# EAGLE library part MICS-SMD12 (library con-lumberg)
CONNECTOR
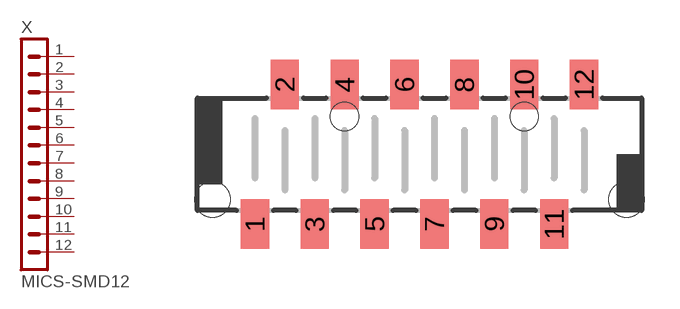
[diagram p14: symbol with the pads of MICSMD12; footprint MICSMD12]

Designator prefix X

## MICS-SMD12 (OC_FARNELL: unknown; OC_NEWARK: unknown)  [MICSMD12]
1  1  pas
2  2  pas
3  3  pas
4  4  pas
5  5  pas
6  6  pas
7  7  pas
8  8  pas
9  9  pas
10  10  pas
11  11  pas
12  12  pas

## Footprint MICSMD12 (pad centres in mm)
CONNECTOR
smd 1.2 x 2.1: 1 -6.985,-2.959; 2 -5.715,2.959; 3 -4.445,-2.959; 4 -3.175,2.959; 5 -1.905,-2.959; 6 -0.635,2.959; 7 0.635,-2.959; 8 1.905,2.959; 9 3.175,-2.959; 10 4.445,2.959; 11 5.715,-2.959; 12 6.985,2.959
hole 1.5 at 8.785,-1.912
hole 1.5 at -8.785,-1.912
hole 1.2 at -3.175,1.6
hole 1.2 at 4.445,1.6